# Altium footprint library Philips Footprints.PcbLib: 101 footprints (part 1 of 7)
Each footprint in its own frame and in the unit in brackets; x right, y up, seen from the top. Pads: shape width x height; smd on the part's side, far side on the other; paste and mask are expansions set on the pad; w line width, h text height; cw(c..) or ccw(c..) is an arc to the next point about the centre after c.
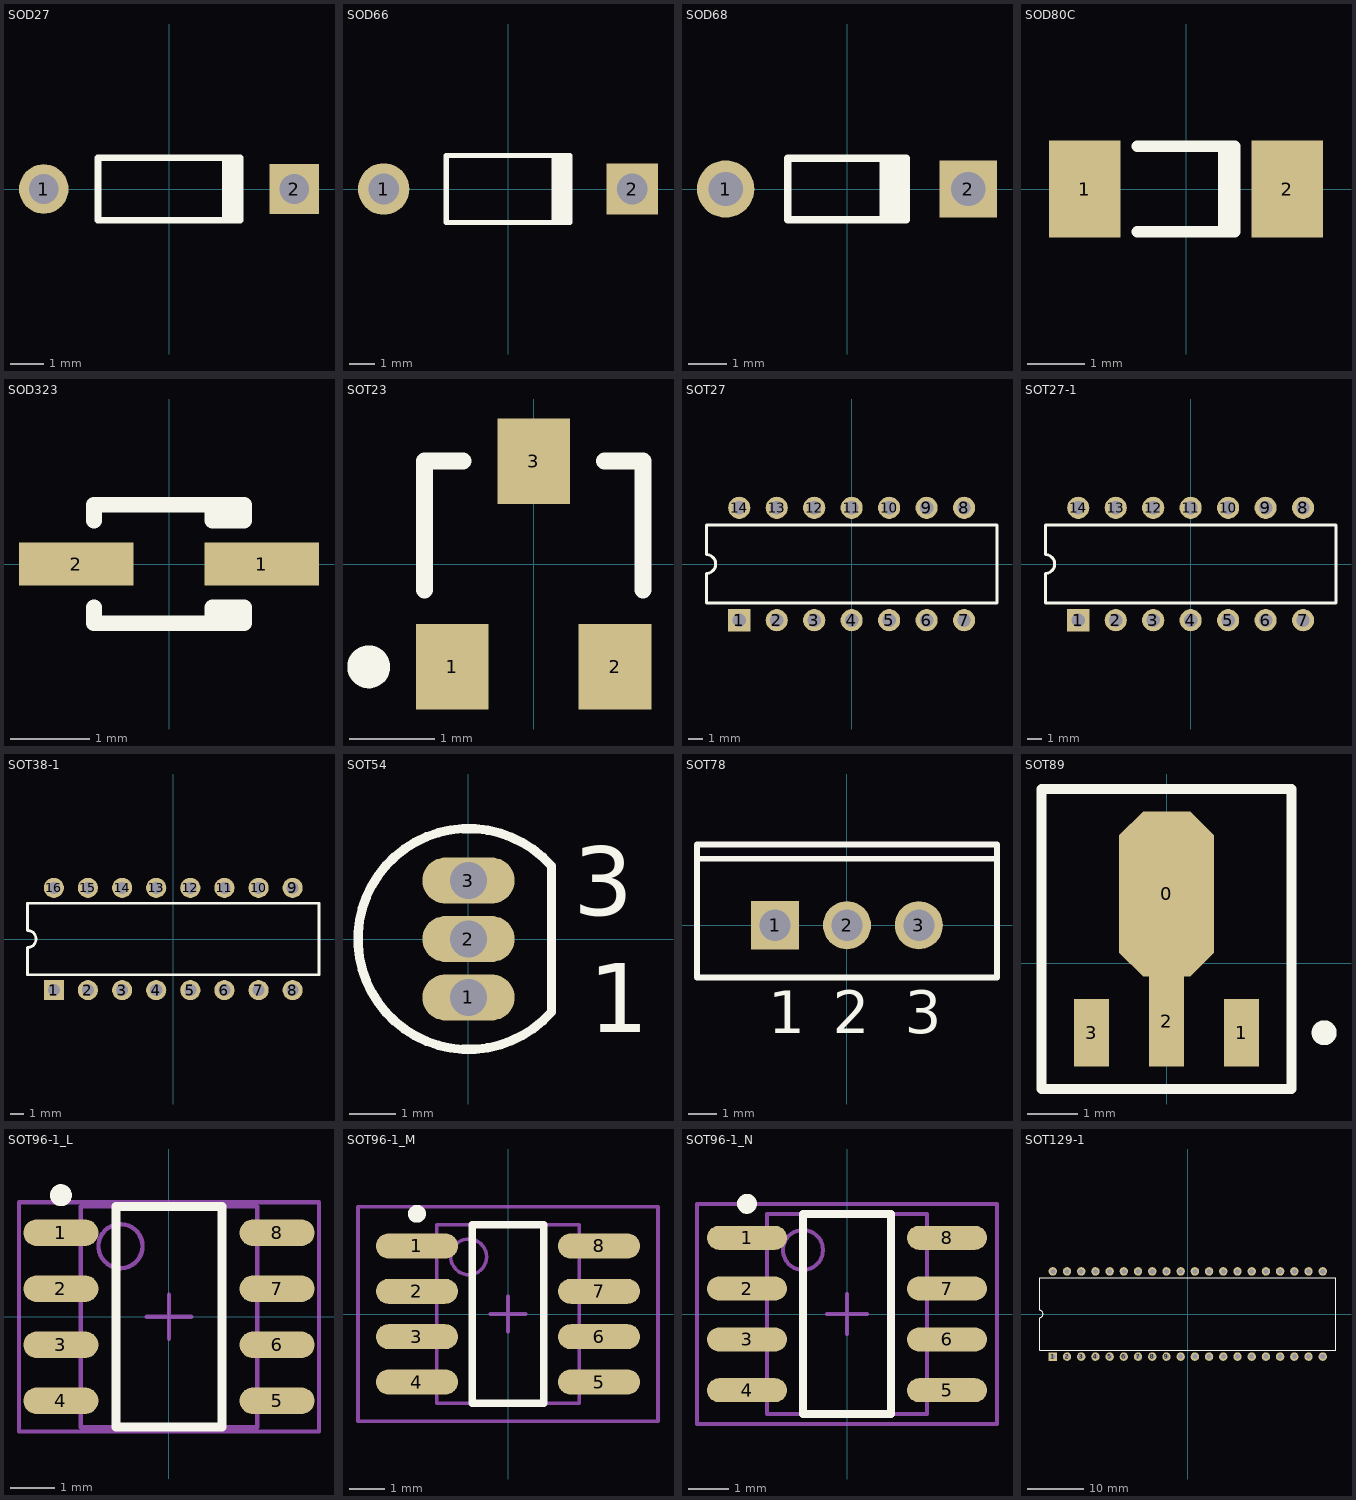
[diagram p0: the footprints below, top view; thin cyan lines are the x and y axes]

## SOD27 [mm] "Diode, Axial; Body 4.3 x 1.9 mm (LxDia. max), Lead Dia. 0.56 mm (max)"
height 1.9
pads (2):
  round 1.5 hole 0.9: 1(-3.79,0)
  rect 1.5x1.5 hole 0.9: 2(3.79,0)
Top Overlay:
  rectangle: 1.6,-0.95 2.25,0.95
  lines w0.2: 2.15,-0.95 -2.15,-0.95 -2.15,0.95 2.15,0.95

## SOD66 [mm] "Diode, Axial; Body 4.8 x 2.6 mm (LxDia. max), Lead Dia. 0.81 mm (max)"
height 2.6
pads (2):
  round 2 hole 1.2: 1(-4.83,0)
  rect 2x2 hole 1.2: 2(4.83,0)
Top Overlay:
  rectangle: 1.7,-1.3 2.5,1.3
  lines w0.2: 2.4,-1.3 -2.4,-1.3 -2.4,1.3 2.4,1.3

## SOD68 [mm] "Diode, Axial; Body 3 x 1.6 mm (LxDia. max), Lead Dia. 0.55 mm (max)"
height 1.6
pads (2):
  round 1.5 hole 0.9: 1(-3.175,0)
  rect 1.5x1.5 hole 0.9: 2(3.175,0)
Top Overlay:
  rectangle: 0.85,-0.8 1.65,0.8
  lines w0.2: 1.55,-0.8 -1.55,-0.8 -1.55,0.8 1.55,0.8

## SOD80C [mm] "Metal Electrode Face (MELF) Diode; Body 3.5 x 1.6 mm (LxDia)"
height 1.6
pads (2):
  rect 1.25x1.7 smd: 1(-1.775,0) 2(1.775,0)
Top Overlay:
  lines w0.2: -0.85,-0.75 0.85,-0.75 0.85,0.75 -0.85,0.75 ; 0.66,-0.75 0.66,0.75

## SOD323 [mm] "SOD-323/SC-76; 2 Leads; Body 1.7 x 1.3 mm, (LxW)"
height 1.1
pads (2):
  rect 1.45x0.55 smd: 1(1.175,0) 2(-1.175,0)
Top Overlay:
  lines w0.2: -0.95,-0.55 -0.95,-0.75 0.95,-0.75 0.95,-0.55 0.55,-0.55 0.55,-0.75 ; -0.95,0.55 -0.95,0.75 0.95,0.75 0.95,0.55 0.55,0.55 0.55,0.75

## SOT23 [mm] "SOT-23; 3 Leads; Body 3.0 x 2.5 mm, inc. leads (LxW max)"
height 1.1
pads (3):
  rect 0.85x1 smd: 1(-0.95,-1.2) 2(0.95,-1.2) 3(0,1.2)
Top Overlay:
  circle w0.25: c-1.925,-1.2 r0.125
  lines w0.2: -1.275,-0.3 -1.275,1.2 -0.825,1.2 ; 0.825,1.2 1.275,1.2 1.275,-0.3

## SOT27 [mm] "DIP; 14 Leads; Row Spacing 7.62 mm; Pitch 2.54 mm"
height 4.2
pads (14):
  rect 1.5x1.5 hole 0.9: 1(-7.62,-3.81)
  round 1.5 hole 0.9: 2(-5.08,-3.81) 3(-2.54,-3.81) 4(0,-3.81) 5(2.54,-3.81) 6(5.08,-3.81) 7(7.62,-3.81) 8(7.62,3.81) 9(5.08,3.81) 10(2.54,3.81) 11(0,3.81) 12(-2.54,3.81) 13(-5.08,3.81) 14(-7.62,3.81)
Top Overlay:
  lines w0.2: -9.85,-2.65 9.85,-2.65 9.85,2.65 -9.85,2.65 -9.85,0.635 cw(c-9.85,0) -9.85,-0.635 -9.85,-2.65

## SOT27-1 [mm] "DIP; 14 Leads; Row Spacing 7.62 mm; Pitch 2.54 mm"
height 4.2
pads (14):
  rect 1.5x1.5 hole 0.9: 1(-7.62,-3.81)
  round 1.5 hole 0.9: 2(-5.08,-3.81) 3(-2.54,-3.81) 4(0,-3.81) 5(2.54,-3.81) 6(5.08,-3.81) 7(7.62,-3.81) 8(7.62,3.81) 9(5.08,3.81) 10(2.54,3.81) 11(0,3.81) 12(-2.54,3.81) 13(-5.08,3.81) 14(-7.62,3.81)
Top Overlay:
  lines w0.2: -9.85,-2.65 9.85,-2.65 9.85,2.65 -9.85,2.65 -9.85,0.635 cw(c-9.85,0) -9.85,-0.635 -9.85,-2.65

## SOT38-1 [mm] "DIP; 16 Leads; Row Spacing 7.62 mm; Pitch 2.54 mm"
height 4.7
pads (16):
  rect 1.5x1.5 hole 0.9: 1(-8.89,-3.81)
  round 1.5 hole 0.9: 2(-6.35,-3.81) 3(-3.81,-3.81) 4(-1.27,-3.81) 5(1.27,-3.81) 6(3.81,-3.81) 7(6.35,-3.81) 8(8.89,-3.81) 9(8.89,3.81) 10(6.35,3.81) 11(3.81,3.81) 12(1.27,3.81) 13(-1.27,3.81) 14(-3.81,3.81) 15(-6.35,3.81) 16(-8.89,3.81)
Top Overlay:
  lines w0.2: -10.85,-2.65 10.85,-2.65 10.85,2.65 -10.85,2.65 -10.85,0.635 cw(c-10.85,0) -10.85,-0.635 -10.85,-2.65

## SOT54 [mm] "TO, Flat Index; 3 In-Line, Axial Leads; Body Dia. 4.6mm; Leads 0.48 x 0.45 mm (max)"
height 5.2
pads (3):
  oval 2x1 hole 0.8: 1(0,-1.27) 2(0,0) 3(0,1.27)
Top Overlay:
  lines w0.2: 1.8,-1.587 1.8,1.587 ; 1.8,-1.587 cw(c0,0) 1.8,1.587
  text "3" at 2.275,0.52 h1.5
  text "1" at 2.616,-2.02 h1.5

## SOT78 [mm] "TO, Thru-Hole, Vertical, Heatsink Mounted; 3 In-Line Leads; Pitch 2.54 mm"
height 18.8
pads (3):
  rect 1.7x1.7 hole 1.1: 1(-2.54,0)
  round 1.7 hole 1.1: 2(0,0) 3(2.54,0)
Top Overlay:
  lines w0.2: -5.3,2.35 5.3,2.35 ; -5.3,-1.85 5.3,-1.85 5.3,2.85 -5.3,2.85 -5.3,-1.85
  text "1" at -2.79,-3.825 h1.5
  text "2" at -0.5,-3.825 h1.5
  text "3" at 2.04,-3.825 h1.5

## SOT89 [mm] "SOT-89; Body 4.6 x 4.25 mm, inc. leads (LxW max); Reverse Pinning"
height 1.6
pads (4):
  oct 1.9x3.3 smd: 0(0,1.388)
  rect 0.7x1.35 smd: 1(1.5,-1.388) 3(-1.5,-1.388)
  rect 0.7x1.8 smd: 2(0,-1.162)
Top Overlay:
  circle w0.25: c3.15,-1.388 r0.125
  lines w0.2: -2.5,-2.512 2.5,-2.512 2.5,3.487 -2.5,3.487 -2.5,-2.512

## SOT96-1_L [mm] "8-Pin Plastic Small Outline Integrated Circuit 1.27 mm Pitch, IPC High Density"
height 1.75
pads (8):
  oval 1.7x0.6 smd: 1(-2.45,1.905) 2(-2.45,0.635) 3(-2.45,-0.635) 4(-2.45,-1.905) 5(2.45,-1.905) 6(2.45,-0.635) 7(2.45,0.635) 8(2.45,1.905)
Top Overlay:
  circle w0.25: c-2.45,2.755 r0.125
  lines w0.2: -1.2,-2.5 -1.2,2.5 1.2,2.5 1.2,-2.5 -1.2,-2.5
Mechanical 13:
  circle w0.1: c-1.1,1.6 r0.5
  lines w0.1: -2,-2.5 -2,2.5 2,2.5 2,-2.5 -2,-2.5
Mechanical 15:
  lines w0.1: -0.5,0 0.5,0 ; 0,-0.5 0,0.5 ; -3.4,-2.6 -3.4,2.6 3.4,2.6 3.4,-2.6 -3.4,-2.6
3D body: height 1.75, standoff 0, extent -2,-2.5 2,2.5

## SOT96-1_M [mm] "8-Pin Plastic Small Outline Integrated Circuit 1.27 mm Pitch, IPC Low Density"
height 1.75
pads (8):
  oval 2.3x0.7 smd: 1(-2.55,1.905) 2(-2.55,0.635) 3(-2.55,-0.635) 4(-2.55,-1.905) 5(2.55,-1.905) 6(2.55,-0.635) 7(2.55,0.635) 8(2.55,1.905)
Top Overlay:
  circle w0.25: c-2.55,2.805 r0.125
  lines w0.2: -1,-2.5 -1,2.5 1,2.5 1,-2.5 -1,-2.5
Mechanical 13:
  circle w0.1: c-1.1,1.6 r0.5
  lines w0.1: -2,-2.5 -2,2.5 2,2.5 2,-2.5 -2,-2.5
Mechanical 15:
  lines w0.1: -0.5,0 0.5,0 ; 0,-0.5 0,0.5 ; -4.2,-3 -4.2,3 4.2,3 4.2,-3 -4.2,-3
3D body: height 1.75, standoff 0, extent -2,-2.5 2,2.5

## SOT96-1_N [mm] "8-Pin Plastic Small Outline Integrated Circuit 1.27 mm Pitch, IPC Medium Density"
height 1.75
pads (8):
  oval 2x0.6 smd: 1(-2.5,1.905) 2(-2.5,0.635) 3(-2.5,-0.635) 4(-2.5,-1.905) 5(2.5,-1.905) 6(2.5,-0.635) 7(2.5,0.635) 8(2.5,1.905)
Top Overlay:
  circle w0.25: c-2.5,2.755 r0.125
  lines w0.2: -1.1,-2.5 -1.1,2.5 1.1,2.5 1.1,-2.5 -1.1,-2.5
Mechanical 13:
  circle w0.1: c-1.1,1.6 r0.5
  lines w0.1: -2,-2.5 -2,2.5 2,2.5 2,-2.5 -2,-2.5
Mechanical 15:
  lines w0.1: -0.5,0 0.5,0 ; 0,-0.5 0,0.5 ; -3.75,-2.75 -3.75,2.75 3.75,2.75 3.75,-2.75 -3.75,-2.75
3D body: height 1.75, standoff 0, extent -2,-2.5 2,2.5

## SOT129-1 [mm] "DIP, Plastic; 40 Leads; Row Spacing 15.24 mm; Pitch 2.54 mm"
height 4.7
pads (40):
  rect 1.5x1.5 hole 0.9: 1(-24.13,-7.62)
  round 1.5 hole 0.9: 2(-21.59,-7.62) 3(-19.05,-7.62) 4(-16.51,-7.62) 5(-13.97,-7.62) 6(-11.43,-7.62) 7(-8.89,-7.62) 8(-6.35,-7.62) 9(-3.81,-7.62) 10(-1.27,-7.62) 11(1.27,-7.62) 12(3.81,-7.62) 13(6.35,-7.62) 14(8.89,-7.62) 15(11.43,-7.62) 16(13.97,-7.62) 17(16.51,-7.62) 18(19.05,-7.62) 19(21.59,-7.62) 20(24.13,-7.62) 21(24.13,7.62) 22(21.59,7.62) 23(19.05,7.62) 24(16.51,7.62) 25(13.97,7.62) 26(11.43,7.62) 27(8.89,7.62) 28(6.35,7.62) 29(3.81,7.62) 30(1.27,7.62) 31(-1.27,7.62) 32(-3.81,7.62) 33(-6.35,7.62) 34(-8.89,7.62) 35(-11.43,7.62) 36(-13.97,7.62) 37(-16.51,7.62) 38(-19.05,7.62) 39(-21.59,7.62) 40(-24.13,7.62)
Top Overlay:
  lines w0.2: -26.5,-6.45 26.5,-6.45 26.5,6.45 -26.5,6.45 -26.5,0.635 cw(c-26.5,0) -26.5,-0.635 -26.5,-6.45